# EAGLE library part TMP117MAIYBGR (library TMP117MAIYBGR)
+/-0.1C accurate digital temperature sensor with integrated NV memory Source: Datasheet <http://www.ti.com/lit/gpn/TMP117>
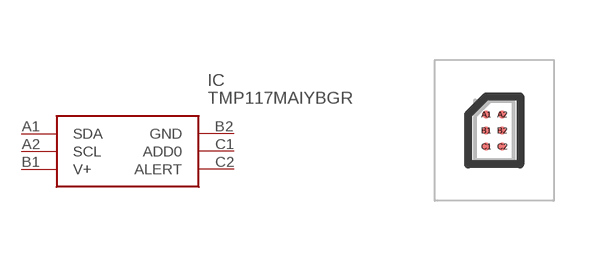
[diagram p0: symbol with the pads of BGA6C40P2X3_95X149X50; footprint BGA6C40P2X3_95X149X50]

Designator prefix IC

## TMP117MAIYBGR (Description: +/-0.1C accurate digital temperature sensor with integrated NV memory; Height: 0.5mm; Manufacturer_Name: Texas Instruments; Manufacturer_Part_Number: TMP117MAIYBGR; Mouser_Part_Number: 595-TMP117MAIYBGR; Mouser_Price-Stock: https://www.mouser.co.uk/ProductDetail/Texas-Instruments/TMP117MAIYBGR?qs=vLWxofP3U2wReoA4ATB%2Fjg%3D%3D)  [BGA6C40P2X3_95X149X50]
A1  SDA
A2  SCL
B1  V+
B2  GND
C1  ADD0
C2  ALERT

## Footprint BGA6C40P2X3_95X149X50 (pad centres in mm)
YBG0006
smd 0.2 x 0.2: A1 -0.2,0.4; A2 0.2,0.4; B1 -0.2,0; B2 0.2,0; C1 -0.2,-0.4; C2 0.2,-0.4